# Altium footprint library 双发双收VPX_V1.1.PcbLib: 33 footprints (part 2 of 3)
Each footprint in its own frame and in the unit in brackets; x right, y up, seen from the top. Pads: shape width x height; smd on the part's side, far side on the other; paste and mask are expansions set on the pad; w line width, h text height; cw(c..) or ccw(c..) is an arc to the next point about the centre after c.
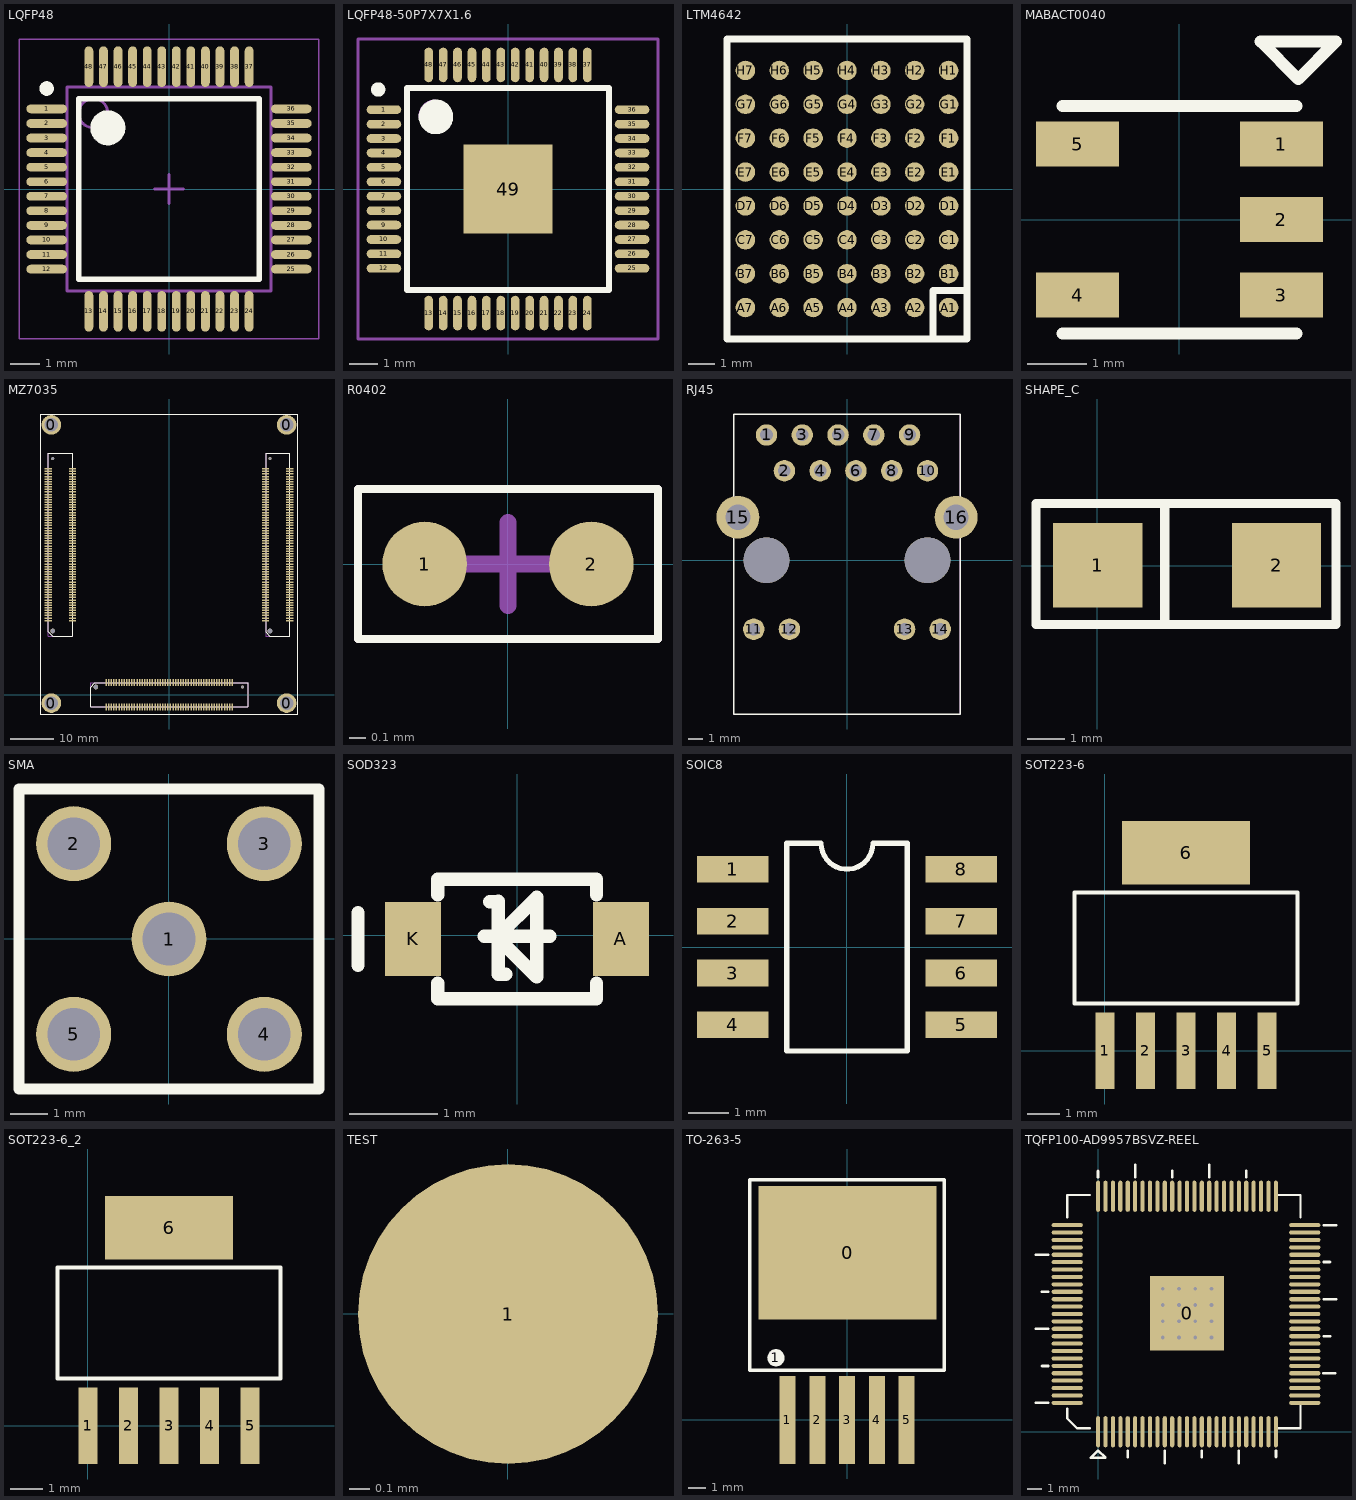
[diagram p1: the footprints below, top view; thin cyan lines are the x and y axes]

## LQFP48 [mm]
height 1.6
pads (48):
  oval 1.4x0.3 smd: 1(-4.2,2.75) 2(-4.2,2.25) 3(-4.2,1.75) 4(-4.2,1.25) 5(-4.2,0.75) 6(-4.2,0.25) 7(-4.2,-0.25) 8(-4.2,-0.75) 9(-4.2,-1.25) 10(-4.2,-1.75) 11(-4.2,-2.25) 12(-4.2,-2.75) 25(4.2,-2.75) 26(4.2,-2.25) 27(4.2,-1.75) 28(4.2,-1.25) 29(4.2,-0.75) 30(4.2,-0.25) 31(4.2,0.25) 32(4.2,0.75) 33(4.2,1.25) 34(4.2,1.75) 35(4.2,2.25) 36(4.2,2.75)
  oval 0.3x1.4 smd: 13(-2.75,-4.2) 14(-2.25,-4.2) 15(-1.75,-4.2) 16(-1.25,-4.2) 17(-0.75,-4.2) 18(-0.25,-4.2) 19(0.25,-4.2) 20(0.75,-4.2) 21(1.25,-4.2) 22(1.75,-4.2) 23(2.25,-4.2) 24(2.75,-4.2) 37(2.75,4.2) 38(2.25,4.2) 39(1.75,4.2) 40(1.25,4.2) 41(0.75,4.2) 42(0.25,4.2) 43(-0.25,4.2) 44(-0.75,4.2) 45(-1.25,4.2) 46(-1.75,4.2) 47(-2.25,4.2) 48(-2.75,4.2)
Top Overlay:
  circle w0.6: c-2.1,2.1 r0.3
  circle w0.25: c-4.2,3.45 r0.125
  lines w0.2: -3.1,-3.1 3.1,-3.1 3.1,3.1 -3.1,3.1 -3.1,-3.1
Mechanical 13:
  circle w0.1: c-2.6,2.6 r0.5
  lines w0.1: -3.5,-3.5 3.5,-3.5 3.5,3.5 -3.5,3.5 -3.5,-3.5
Mechanical 15:
  lines w0.05: -5.15,-5.15 5.15,-5.15 5.15,5.15 -5.15,5.15 -5.15,-5.15
  lines w0.1: -0.5,0 0.5,0 ; 0,-0.5 0,0.5
3D body: height 1.6, standoff 0.05, extent -3.5,-3.5 3.5,3.5

## LQFP48-50P7X7X1.6 [mm] "LQFP, 48-Leads, Body 9.2x9.2mm (max), Pitch 0.50mm, IPC Medium Density"
height 1.6
pads (49):
  oval 1.2x0.3 smd: 1(-4.3,2.75) 2(-4.3,2.25) 3(-4.3,1.75) 4(-4.3,1.25) 5(-4.3,0.75) 6(-4.3,0.25) 7(-4.3,-0.25) 8(-4.3,-0.75) 9(-4.3,-1.25) 10(-4.3,-1.75) 11(-4.3,-2.25) 12(-4.3,-2.75) 25(4.3,-2.75) 26(4.3,-2.25) 27(4.3,-1.75) 28(4.3,-1.25) 29(4.3,-0.75) 30(4.3,-0.25) 31(4.3,0.25) 32(4.3,0.75) 33(4.3,1.25) 34(4.3,1.75) 35(4.3,2.25) 36(4.3,2.75)
  oval 0.3x1.2 smd: 13(-2.75,-4.3) 14(-2.25,-4.3) 15(-1.75,-4.3) 16(-1.25,-4.3) 17(-0.75,-4.3) 18(-0.25,-4.3) 19(0.25,-4.3) 20(0.75,-4.3) 21(1.25,-4.3) 22(1.75,-4.3) 23(2.25,-4.3) 24(2.75,-4.3) 37(2.75,4.3) 38(2.25,4.3) 39(1.75,4.3) 40(1.25,4.3) 41(0.75,4.3) 42(0.25,4.3) 43(-0.25,4.3) 44(-0.75,4.3) 45(-1.25,4.3) 46(-1.75,4.3) 47(-2.25,4.3) 48(-2.75,4.3)
  rect 3.1x3.1 smd: 49(0,0)
Top Overlay:
  circle w0.6: c-2.5,2.5 r0.3
  circle w0.25: c-4.5,3.45 r0.125
  lines w0.2: -3.5,-3.5 3.5,-3.5 3.5,3.5 -3.5,3.5 -3.5,-3.5
Mechanical 13:
  circle w0.1: c-2.55,2.55 r0.5
  lines w0.1: -3.5,-3.5 3.5,-3.5 3.5,3.5 -3.5,3.5 -3.5,-3.5
Mechanical 15:
  lines w0.1: -0.5,0 0.5,0 ; 0,-0.5 0,0.5 ; -5.2,-5.2 5.2,-5.2 5.2,5.2 -5.2,5.2 -5.2,-5.2
3D body: height 1.6, standoff 0.05, extent -3.5,-3.5 3.5,3.5

## LTM4642 [mm]
height 3.2
pads (56):
  round 0.73 smd: A1(3.81,-4.445) A2(2.54,-4.445) A3(1.27,-4.445) A4(0,-4.445) A5(-1.27,-4.445) A6(-2.54,-4.445) A7(-3.81,-4.445) B1(3.81,-3.175) B2(2.54,-3.175) B3(1.27,-3.175) B4(0,-3.175) B5(-1.27,-3.175) B6(-2.54,-3.175) B7(-3.81,-3.175) C1(3.81,-1.905) C2(2.54,-1.905) C3(1.27,-1.905) C4(0,-1.905) C5(-1.27,-1.905) C6(-2.54,-1.905) C7(-3.81,-1.905) D1(3.81,-0.635) D2(2.54,-0.635) D3(1.27,-0.635) D4(0,-0.635) D5(-1.27,-0.635) D6(-2.54,-0.635) D7(-3.81,-0.635) E1(3.81,0.635) E2(2.54,0.635) E3(1.27,0.635) E4(0,0.635) E5(-1.27,0.635) E6(-2.54,0.635) E7(-3.81,0.635) F1(3.81,1.905) F2(2.54,1.905) F3(1.27,1.905) F4(0,1.905) F5(-1.27,1.905) F6(-2.54,1.905) F7(-3.81,1.905) G1(3.81,3.175) G2(2.54,3.175) G3(1.27,3.175) G4(0,3.175) G5(-1.27,3.175) G6(-2.54,3.175) G7(-3.81,3.175) H1(3.81,4.445) H2(2.54,4.445) H3(1.27,4.445) H4(0,4.445) H5(-1.27,4.445) H6(-2.54,4.445) H7(-3.81,4.445)
Top Overlay:
  lines w0.254: 3.225,-5.625 3.225,-3.81 4.5,-3.81 ; -4.5,-5.625 4.5,-5.625 4.5,5.625 -4.5,5.625 -4.5,-5.625

## MABACT0040 [mm]
pads (5):
  rect 1.4x0.76 smd: 1(1.715,1.27) 2(1.715,0) 3(1.715,-1.27) 4(-1.715,-1.27) 5(-1.715,1.27)
Top Overlay:
  lines w0.2: -1.97,-1.915 1.97,-1.915 ; -1.97,1.915 1.97,1.915 ; 1.365,3 2.635,3 2,2.365 1.365,3

## MZ7035 [mm]
height 1.2
pads (350):
  round 4.57 hole 3.1: 0(-27.489,62.943) 0(-27.489,-1.954) 0(27.401,-1.954) 0(27.401,62.943)
  round 0.711 hole 0.75: 0(-27.173,55.073) 0(17.1,1.8) 0(23.485,55.073)
  round 1.092 hole 1.1: 0(-27.173,14.873) 0(-17.1,1.8) 0(23.485,14.873)
  rect 1.7x0.35 smd: A1_1(-22.523,17.273) A1_2(-22.523,17.873) A1_3(-22.523,18.473) A1_4(-22.523,19.073) A1_5(-22.523,19.673) A1_6(-22.523,20.273) A1_7(-22.523,20.873) A1_8(-22.523,21.473) A1_9(-22.523,22.073) A1_10(-22.523,22.673) A1_11(-22.523,23.273) A1_12(-22.523,23.873) A1_13(-22.523,24.473) A1_14(-22.523,25.073) A1_15(-22.523,25.673) A1_16(-22.523,26.273) A1_17(-22.523,26.873) A1_18(-22.523,27.473) A1_19(-22.523,28.073) A1_20(-22.523,28.673) A1_21(-22.523,29.273) A1_22(-22.523,29.873) A1_23(-22.523,30.473) A1_24(-22.523,31.073) A1_25(-22.523,31.673) A1_26(-22.523,32.273) A1_27(-22.523,32.873) A1_28(-22.523,33.473) A1_29(-22.523,34.073) A1_30(-22.523,34.673) A1_31(-22.523,35.273) A1_32(-22.523,35.873) A1_33(-22.523,36.473) A1_34(-22.523,37.073) A1_35(-22.523,37.673) A1_36(-22.523,38.273) A1_37(-22.523,38.873) A1_38(-22.523,39.473) A1_39(-22.523,40.073) A1_40(-22.523,40.673) A1_41(-22.523,41.273) A1_42(-22.523,41.873) A1_43(-22.523,42.473) A1_44(-22.523,43.073) A1_45(-22.523,43.673) A1_46(-22.523,44.273) A1_47(-22.523,44.873) A1_48(-22.523,45.473) A1_49(-22.523,46.073) A1_50(-22.523,46.673) A1_51(-22.523,47.273) A1_52(-22.523,47.873) A1_53(-22.523,48.473) A1_54(-22.523,49.073) A1_55(-22.523,49.673) A1_56(-22.523,50.273) A1_57(-22.523,50.873) A1_58(-22.523,51.473) A1_59(-22.523,52.073) A1_60(-22.523,52.673) A3_1(28.135,17.273) A3_2(28.135,17.873) A3_3(28.135,18.473) A3_4(28.135,19.073) A3_5(28.135,19.673) A3_6(28.135,20.273) A3_7(28.135,20.873) A3_8(28.135,21.473) A3_9(28.135,22.073) A3_10(28.135,22.673) A3_11(28.135,23.273) A3_12(28.135,23.873) A3_13(28.135,24.473) A3_14(28.135,25.073) A3_15(28.135,25.673) A3_16(28.135,26.273) A3_17(28.135,26.873) A3_18(28.135,27.473) A3_19(28.135,28.073) A3_20(28.135,28.673) A3_21(28.135,29.273) A3_22(28.135,29.873) A3_23(28.135,30.473) A3_24(28.135,31.073) A3_25(28.135,31.673) A3_26(28.135,32.273) A3_27(28.135,32.873) A3_28(28.135,33.473) A3_29(28.135,34.073) A3_30(28.135,34.673) A3_31(28.135,35.273) A3_32(28.135,35.873) A3_33(28.135,36.473) A3_34(28.135,37.073) A3_35(28.135,37.673) A3_36(28.135,38.273) A3_37(28.135,38.873) A3_38(28.135,39.473) A3_39(28.135,40.073) A3_40(28.135,40.673) A3_41(28.135,41.273) A3_42(28.135,41.873) A3_43(28.135,42.473) A3_44(28.135,43.073) A3_45(28.135,43.673) A3_46(28.135,44.273) A3_47(28.135,44.873) A3_48(28.135,45.473) A3_49(28.135,46.073) A3_50(28.135,46.673) A3_51(28.135,47.273) A3_52(28.135,47.873) A3_53(28.135,48.473) A3_54(28.135,49.073) A3_55(28.135,49.673) A3_56(28.135,50.273) A3_57(28.135,50.873) A3_58(28.135,51.473) A3_59(28.135,52.073) A3_60(28.135,52.673) B1_1(-28.223,17.273) B1_2(-28.223,17.873) B1_3(-28.223,18.473) B1_4(-28.223,19.073) B1_5(-28.223,19.673) B1_6(-28.223,20.273) B1_7(-28.223,20.873) B1_8(-28.223,21.473) B1_9(-28.223,22.073) B1_10(-28.223,22.673) B1_11(-28.223,23.273) B1_12(-28.223,23.873) B1_13(-28.223,24.473) B1_14(-28.223,25.073) B1_15(-28.223,25.673) B1_16(-28.223,26.273) B1_17(-28.223,26.873) B1_18(-28.223,27.473) B1_19(-28.223,28.073) B1_20(-28.223,28.673) B1_21(-28.223,29.273) B1_22(-28.223,29.873) B1_23(-28.223,30.473) B1_24(-28.223,31.073) B1_25(-28.223,31.673) B1_26(-28.223,32.273) B1_27(-28.223,32.873) B1_28(-28.223,33.473) B1_29(-28.223,34.073) B1_30(-28.223,34.673) B1_31(-28.223,35.273) B1_32(-28.223,35.873) B1_33(-28.223,36.473) B1_34(-28.223,37.073) B1_35(-28.223,37.673) B1_36(-28.223,38.273) B1_37(-28.223,38.873) B1_38(-28.223,39.473) B1_39(-28.223,40.073) B1_40(-28.223,40.673) B1_41(-28.223,41.273) B1_42(-28.223,41.873) B1_43(-28.223,42.473) B1_44(-28.223,43.073) B1_45(-28.223,43.673) B1_46(-28.223,44.273) B1_47(-28.223,44.873) B1_48(-28.223,45.473) B1_49(-28.223,46.073) B1_50(-28.223,46.673) B1_51(-28.223,47.273) B1_52(-28.223,47.873) B1_53(-28.223,48.473) B1_54(-28.223,49.073) B1_55(-28.223,49.673) B1_56(-28.223,50.273) B1_57(-28.223,50.873) B1_58(-28.223,51.473) B1_59(-28.223,52.073) B1_60(-28.223,52.673) B3_1(22.435,17.273) B3_2(22.435,17.873) B3_3(22.435,18.473) B3_4(22.435,19.073) B3_5(22.435,19.673) B3_6(22.435,20.273) B3_7(22.435,20.873) B3_8(22.435,21.473) B3_9(22.435,22.073) B3_10(22.435,22.673) B3_11(22.435,23.273) B3_12(22.435,23.873) B3_13(22.435,24.473) B3_14(22.435,25.073) B3_15(22.435,25.673) B3_16(22.435,26.273) B3_17(22.435,26.873) B3_18(22.435,27.473) B3_19(22.435,28.073) B3_20(22.435,28.673) B3_21(22.435,29.273) B3_22(22.435,29.873) B3_23(22.435,30.473) B3_24(22.435,31.073) B3_25(22.435,31.673) B3_26(22.435,32.273) B3_27(22.435,32.873) B3_28(22.435,33.473) B3_29(22.435,34.073) B3_30(22.435,34.673) B3_31(22.435,35.273) B3_32(22.435,35.873) B3_33(22.435,36.473) B3_34(22.435,37.073) B3_35(22.435,37.673) B3_36(22.435,38.273) B3_37(22.435,38.873) B3_38(22.435,39.473) B3_39(22.435,40.073) B3_40(22.435,40.673) B3_41(22.435,41.273) B3_42(22.435,41.873) B3_43(22.435,42.473) B3_44(22.435,43.073) B3_45(22.435,43.673) B3_46(22.435,44.273) B3_47(22.435,44.873) B3_48(22.435,45.473) B3_49(22.435,46.073) B3_50(22.435,46.673) B3_51(22.435,47.273) B3_52(22.435,47.873) B3_53(22.435,48.473) B3_54(22.435,49.073) B3_55(22.435,49.673) B3_56(22.435,50.273) B3_57(22.435,50.873) B3_58(22.435,51.473) B3_59(22.435,52.073) B3_60(22.435,52.673)
  rect 0.35x1.7 smd: A2_1(-14.7,-2.85) A2_2(-14.1,-2.85) A2_3(-13.5,-2.85) A2_4(-12.9,-2.85) A2_5(-12.3,-2.85) A2_6(-11.7,-2.85) A2_7(-11.1,-2.85) A2_8(-10.5,-2.85) A2_9(-9.9,-2.85) A2_10(-9.3,-2.85) A2_11(-8.7,-2.85) A2_12(-8.1,-2.85) A2_13(-7.5,-2.85) A2_14(-6.9,-2.85) A2_15(-6.3,-2.85) A2_16(-5.7,-2.85) A2_17(-5.1,-2.85) A2_18(-4.5,-2.85) A2_19(-3.9,-2.85) A2_20(-3.3,-2.85) A2_21(-2.7,-2.85) A2_22(-2.1,-2.85) A2_23(-1.5,-2.85) A2_24(-0.9,-2.85) A2_25(-0.3,-2.85) A2_26(0.3,-2.85) A2_27(0.9,-2.85) A2_28(1.5,-2.85) A2_29(2.1,-2.85) A2_30(2.7,-2.85) A2_31(3.3,-2.85) A2_32(3.9,-2.85) A2_33(4.5,-2.85) A2_34(5.1,-2.85) A2_35(5.7,-2.85) A2_36(6.3,-2.85) A2_37(6.9,-2.85) A2_38(7.5,-2.85) A2_39(8.1,-2.85) A2_40(8.7,-2.85) A2_41(9.3,-2.85) A2_42(9.9,-2.85) A2_43(10.5,-2.85) A2_44(11.1,-2.85) A2_45(11.7,-2.85) A2_46(12.3,-2.85) A2_47(12.9,-2.85) A2_48(13.5,-2.85) A2_49(14.1,-2.85) A2_50(14.7,-2.85) B2_1(-14.7,2.85) B2_2(-14.1,2.85) B2_3(-13.5,2.85) B2_4(-12.9,2.85) B2_5(-12.3,2.85) B2_6(-11.7,2.85) B2_7(-11.1,2.85) B2_8(-10.5,2.85) B2_9(-9.9,2.85) B2_10(-9.3,2.85) B2_11(-8.7,2.85) B2_12(-8.1,2.85) B2_13(-7.5,2.85) B2_14(-6.9,2.85) B2_15(-6.3,2.85) B2_16(-5.7,2.85) B2_17(-5.1,2.85) B2_18(-4.5,2.85) B2_19(-3.9,2.85) B2_20(-3.3,2.85) B2_21(-2.7,2.85) B2_22(-2.1,2.85) B2_23(-1.5,2.85) B2_24(-0.9,2.85) B2_25(-0.3,2.85) B2_26(0.3,2.85) B2_27(0.9,2.85) B2_28(1.5,2.85) B2_29(2.1,2.85) B2_30(2.7,2.85) B2_31(3.3,2.85) B2_32(3.9,2.85) B2_33(4.5,2.85) B2_34(5.1,2.85) B2_35(5.7,2.85) B2_36(6.3,2.85) B2_37(6.9,2.85) B2_38(7.5,2.85) B2_39(8.1,2.85) B2_40(8.7,2.85) B2_41(9.3,2.85) B2_42(9.9,2.85) B2_43(10.5,2.85) B2_44(11.1,2.85) B2_45(11.7,2.85) B2_46(12.3,2.85) B2_47(12.9,2.85) B2_48(13.5,2.85) B2_49(14.1,2.85) B2_50(14.7,2.85)
Top Overlay:
  lines w0.1: -28.173,14.673 -27.173,13.673 -22.573,13.673 -22.573,56.282 -28.173,56.282 -28.173,14.673 ; -18.3,-2.8 -18.3,1.8 -17.3,2.8 18.3,2.8 18.3,-2.8 -18.3,-2.8 ; 22.485,14.673 23.485,13.673 28.085,13.673 28.085,56.282 22.485,56.282 22.485,14.673
  lines w0.203: -30.029,-4.494 -30.029,65.457
  lines w0.254: -30.029,-4.494 29.941,-4.494 29.941,65.457 -30.029,65.457
Mechanical 7:
  lines w0.025: -28.173,13.673 -22.573,13.673 -22.573,56.282 -28.173,56.282 -28.173,13.673 ; -18.3,-2.8 -18.3,2.8 18.3,2.8 18.3,-2.8 -18.3,-2.8 ; 22.485,13.673 28.085,13.673 28.085,56.282 22.485,56.282 22.485,13.673

## R0402 [mil]
height 11.81
pads (2):
  round 20 smd: 1(-19.68,0) 2(19.68,0)
Top Overlay:
  lines w1.97: -35.43,-17.72 35.43,-17.72 35.43,17.72 -35.43,17.72 -35.43,-17.72
Mechanical 15:
  lines w1.97: -35.43,-17.72 35.43,-17.72 35.43,17.72 -35.43,17.72 -35.43,-17.72
  lines w3.94: -9.84,0 9.84,0 ; 0,-9.84 0,9.84

## RJ45 [mil]
height 47.24
pads (18):
  round 60 hole 35: 1(-225,350) 2(-175,250) 3(-125,350) 4(-75,250) 5(-25,350) 6(25,250) 7(75,350) 8(125,250) 9(175,350) 10(225,250) 11(-260.83,-192.91) 12(-160.83,-192.91) 13(160.83,-192.91) 14(260.83,-192.91)
  round 120 hole 70: 15(-304.92,120.08) 16(304.92,120.08)
  round 128 hole 128: " "(-225,0) " "(225,0)
Top Overlay:
  lines w3.94: -316.93,-429.92 -316.93,408.66 316.93,408.66 316.93,-429.92 -316.93,-429.92
Mechanical 6:
  text "1" at -225,324.9 h30
  text "15" at -304.92,82.38 h30
  text "16" at 304.92,82.38 h30
  text "2" at -175,224.9 h30
  text "3" at -125,324.9 h30
  text "4" at -75,224.9 h30
  text "7" at 75,324.9 h30
  text "5" at -25,324.9 h30
  text "6" at 25,224.9 h30
  text "8" at 125,224.9 h30
  text "9" at 175,324.9 h30
Mechanical 7:
  lines w1: -316.93,-429.92 -316.93,408.66 316.93,408.66 316.93,-429.92 -316.93,-429.92

## SHAPE_C [mil]
height 125.98
pads (2):
  rect 95x90 smd: 1(0.76,0.43) 2(190.76,0.43)
Top Overlay:
  lines w10: -65,-62.57 254,-62.57 254,66 -65,66 -65,-60 ; 72,-62.41 72,60

## SMA [mm]
pads (5):
  round 2 hole 1.4: 1(0,0) 2(-2.54,2.54) 3(2.54,2.54) 4(2.54,-2.54) 5(-2.54,-2.54)
Top Overlay:
  lines w0.305: -4,-4 -4,4 4,4 4,-4 -4,-4

## SOD323 [mil]
height 125.98
pads (2):
  rect 25x33 smd: A(46.14,-1.65) K(-46.46,-1.65)
Top Overlay:
  lines w6: -70.98,-13.45 -70.98,10.15 ; -35.56,-21.35 -35.56,-28.25 35.24,-28.25 35.24,-21.35 ; -35.56,18.05 -35.56,24.94 35.24,24.94 35.24,18.05 ; -14.76,-0.45 14.44,-0.45 ; -12.36,14.85 -8.46,14.85 ; -9.76,-0.25 8.64,-18.56 8.64,16.85 -8.96,-0.65 ; -8.46,-17.45 -5.26,-17.45 ; -8.46,-17.06 -8.46,15.25

## SOIC8 [mm]
pads (8):
  rect 1.75x0.65 smd: 1(-2.794,1.905) 2(-2.794,0.635) 3(-2.794,-0.635) 4(-2.794,-1.905) 5(2.794,-1.905) 6(2.794,-0.635) 7(2.794,0.635) 8(2.794,1.905)
Top Overlay:
  lines w0.127: -1.475,2.54 -1.475,-2.54 1.473,-2.54 ; -1.473,2.54 -0.635,2.54 ccw(c0,2.54) 0.635,2.54 1.473,2.54 ; 1.475,-2.54 1.475,2.54

## SOT223-6 [mm]
height 1.2
pads (6):
  rect 0.6x2.4 smd: 1(0,0) 2(1.27,0) 3(2.54,0) 4(3.81,0) 5(5.08,0)
  rect 4x2 smd: 6(2.54,6.2)
Top Overlay:
  lines w0.127: -0.96,1.485 -0.96,4.955 6.04,4.955 6.04,1.485 5.518,1.485 -0.96,1.485

## SOT223-6_2 [mm]
pads (6):
  rect 0.6x2.4 smd: 1(0,0) 2(1.27,0) 3(2.54,0) 4(3.81,0) 5(5.08,0)
  rect 4x2 smd: 6(2.54,6.2)
Top Overlay:
  lines w0.127: -0.96,1.485 -0.96,4.955 6.04,4.955 6.04,1.485 5.518,1.485 -0.96,1.485

## TEST [mm]
pads (1):
  round 1.5 smd: 1(0,0)

## TO-263-5 [mm]
height 0.55
pads (7):
  rect 10.16x7.62 smd: 0(0.025,9.55)
  round 1 on Top Overlay: 1(-4.064,3.556)
  rect 0.914x5.03 smd: 1(-3.41,0) 2(-1.7,0) 3(0,0) 4(1.7,0) 5(3.4,0)
Top Overlay:
  lines w0.2: -5.563,2.845 -5.563,13.741 -2.485,13.741 2.485,13.741 5.563,13.741 5.563,2.845 -5.563,2.845

## TQFP100-AD9957BSVZ-REEL [mm]
pads (101):
  rect 5x5 smd: 0(6,8)
  oval 0.28x2.1 smd: 1(0,0) 2(0.5,0) 3(1,0) 4(1.5,0) 5(2,0) 6(2.5,0) 7(3,0) 8(3.5,0) 9(4,0) 10(4.5,0) 11(5,0) 12(5.5,0) 13(6,0) 14(6.5,0) 15(7,0) 16(7.5,0) 17(8,0) 18(8.5,0) 19(9,0) 20(9.5,0) 21(10,0) 22(10.5,0) 23(11,0) 24(11.5,0) 25(12,0) 51(12,15.9) 52(11.5,15.9) 53(11,15.9) 54(10.5,15.9) 55(10,15.9) 56(9.5,15.9) 57(9,15.9) 58(8.5,15.9) 59(8,15.9) 60(7.5,15.9) 61(7,15.9) 62(6.5,15.9) 63(6,15.9) 64(5.5,15.9) 65(5,15.9) 66(4.5,15.9) 67(4,15.9) 68(3.5,15.9) 69(3,15.9) 70(2.5,15.9) 71(2,15.9) 72(1.498,15.9) 73(1,15.9) 74(0.5,15.9) 75(0,15.9)
  oval 2.1x0.28 smd: 26(13.95,1.95) 27(13.95,2.45) 28(13.95,2.95) 29(13.95,3.45) 30(13.95,3.95) 31(13.95,4.45) 32(13.95,4.95) 33(13.95,5.45) 34(13.95,5.95) 35(13.95,6.45) 36(13.95,6.95) 37(13.95,7.45) 38(13.95,7.95) 39(13.95,8.45) 40(13.95,8.95) 41(13.95,9.45) 42(13.95,9.95) 43(13.95,10.45) 44(13.95,10.95) 45(13.95,11.45) 46(13.95,11.95) 47(13.95,12.45) 48(13.95,12.95) 49(13.95,13.45) 50(13.95,13.95) 76(-2.085,13.95) 77(-2.085,13.45) 78(-2.085,12.95) 79(-2.085,12.45) 80(-2.085,11.95) 81(-2.085,11.45) 82(-2.085,10.95) 83(-2.085,10.45) 84(-2.085,9.95) 85(-2.085,9.45) 86(-2.085,8.95) 87(-2.085,8.45) 88(-2.085,7.95) 89(-2.085,7.45) 90(-2.085,6.95) 91(-2.085,6.45) 92(-2.085,5.95) 93(-2.085,5.45) 94(-2.085,4.95) 95(-2.085,4.45) 96(-2.085,3.95) 97(-2.085,3.45) 98(-2.085,2.95) 99(-2.085,2.45) 100(-2.085,1.95)
via 4.359,8.559 diameter 0.457 hole 0.254
via 4.359,9.659 diameter 0.457 hole 0.254
via 5.459,7.459 diameter 0.457 hole 0.254
via 5.459,8.559 diameter 0.457 hole 0.254
via 5.459,9.659 diameter 0.457 hole 0.254
via 6.559,6.359 diameter 0.457 hole 0.254
via 6.559,7.459 diameter 0.457 hole 0.254
via 6.559,8.559 diameter 0.457 hole 0.254
via 6.559,9.659 diameter 0.457 hole 0.254
via 7.659,6.359 diameter 0.457 hole 0.254
via 7.659,7.459 diameter 0.457 hole 0.254
via 7.659,8.559 diameter 0.457 hole 0.254
via 7.659,9.659 diameter 0.457 hole 0.254
via 4.359,7.459 diameter 0.457 hole 0.254
via 5.459,6.359 diameter 0.457 hole 0.254
via 4.359,6.359 diameter 0.457 hole 0.254
Top Overlay:
  lines w0.152: -2.083,1.575 -2.083,0.889 -1.428,0.234 -0.559,0.234
  lines w0.154: -2.083,14.458 -2.083,15.982 -0.559,15.982 ; 12.141,0.234 13.665,0.234 13.665,1.758 ; 12.141,15.982 13.665,15.982 13.665,14.458
  lines w0.178: -4.193,1.954 -3.381,1.954 ; -4.193,6.954 -3.381,6.954 ; -4.191,11.957 -3.378,11.957 ; -3.787,4.443 -3.355,4.443 ; -3.787,9.443 -3.355,9.443 ; -0.007,17.17 -0.007,17.602 ; 2.007,-1.702 2.007,-1.27 ; 2.504,17.195 2.504,18.008 ; 4.496,-2.108 4.496,-1.295 ; 4.993,17.17 4.993,17.602 ; 7.007,-1.702 7.007,-1.27 ; 7.504,17.195 7.504,18.008 ; 9.496,-2.108 9.496,-1.295 ; 9.993,17.17 9.993,17.602 ; 12.007,-1.702 12.007,-1.27 ; 15.189,3.944 16.002,3.944 ; 15.22,6.457 15.652,6.457 ; 15.22,11.457 15.652,11.457 ; 15.245,8.946 16.058,8.946 ; 15.245,13.946 16.058,13.946 ; -0.483,-1.753 0,-1.27 0.483,-1.753 -0.483,-1.753